# Altium footprint library 1825289-1.PcbLib: 1 footprints
Each footprint in its own frame and in the unit in brackets; x right, y up, seen from the top. Pads: shape width x height; smd on the part's side, far side on the other; paste and mask are expansions set on the pad; w line width, h text height; cw(c..) or ccw(c..) is an arc to the next point about the centre after c.
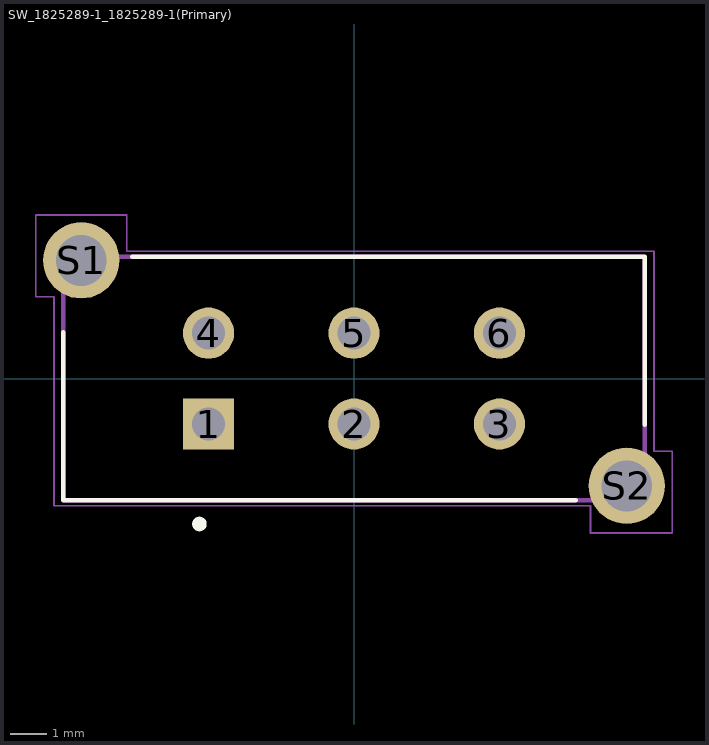
[diagram p0: the footprint, top view; thin cyan lines are the x and y axes]

## SW_1825289-1_1825289-1(Primary) [mm]
pads (8):
  rect 1.408x1.408 hole 0.9: 1(-4,-1.25)
  round 1.408 hole 0.9: 2(0,-1.25) 3(4,-1.25) 4(-4,1.25) 5(0,1.25) 6(4,1.25)
  round 2.1 hole 1.4: S1(-7.5,3.25) S2(7.5,-2.95)
Top Overlay:
  circle w0.2: c-4.25,-4 r0.1
  lines w0.127: -8,1.27 -8,-3.35 6.096,-3.35 ; -6.096,3.35 8,3.35 8,-1.27
Mechanical 1:
  circle w0.2: c-4,-1.25 r0.1
  lines w0.127: -8,-3.35 8,-3.35 8,3.35 -8,3.35 -8,-3.35
Mechanical 4:
  lines w0.05: -8.75,2.25 -8.25,2.25 -8.25,-3.5 6.5,-3.5 6.5,-4.25 8.75,-4.25 8.75,-2 8.25,-2 8.25,3.5 -6.25,3.5 -6.25,4.5 -8.75,4.5 -8.75,2.25